# Altium schematic symbol library Schlib1.SchLib: 2 symbols
Pins are listed as number, name and electrical type; pins without a type are passive.

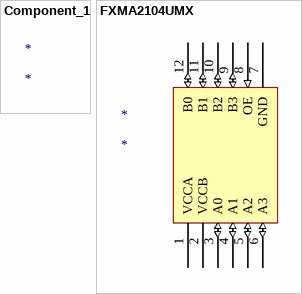
[diagram p0: symbols Component_1 to FXMA2104UMX]

## Component_1
designator *

## FXMA2104UMX
designator *
footprint QFN40P160X160X50-12N
pins: 1 VCCA (power), 2 VCCB (power), 3 A0 (io), 4 A1 (io), 5 A2 (io), 6 A3 (io), 7 GND (power), 8 OE (in), 9 B3 (io), 10 B2 (io), 11 B1 (io), 12 B0 (io)